# EAGLE library part PINES_PI_PICO (library UNIT_Biblioteca_Modulos)
Pines para Raspberry PI Pico Source: Datasheet <https://uelectronics.com/wp-content/uploads/2021/02/AR1942-Raspberry-PI-Pico-RP2040-ARM-Cortex-M0-Dimensiones-V9.jpg> SKU: AR1942 Propietario: UNIT Electronics Desarrollador: Federico Hidalgo
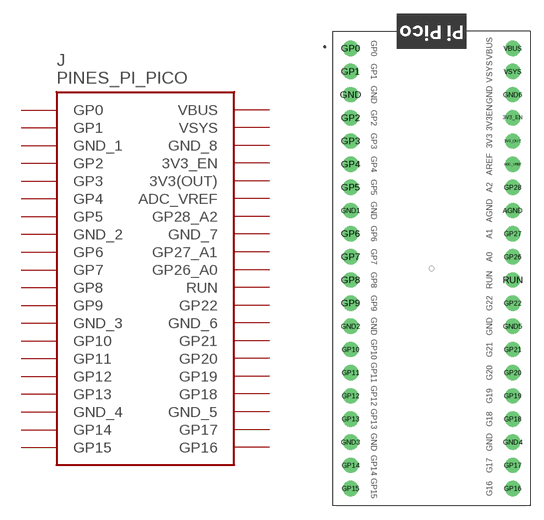
[diagram p10: symbol with the pads of PICO; footprint PICO]

Designator prefix J

## PINES_PI_PICO (DESCRIPTION: Pinn to connect Raspberry Pi Pico; HEIGHT: 21mm; MANUFACTURER_NAME: RASPBERRY-PI; MANUFACTURER_PART_NUMBER: PICO; UNIT_PART_NUMBER: AR1942; UNIT_PRICE-STOCK: https://uelectronics.com/producto/raspberry-pi-pico-rp2040-arm-cortex-m0/; WIDTH: 51mm)  [PICO]
3V3_EN  3V3_EN
3V3_OUT  3V3(OUT)
ADC_VREF  ADC_VREF
AGND  GND_7
GND  GND_1
GND1  GND_2
GND2  GND_3
GND3  GND_4
GND4  GND_5
GND5  GND_6
GND6  GND_8
GP0  GP0
GP1  GP1
GP2  GP2
GP3  GP3
GP4  GP4
GP5  GP5
GP6  GP6
GP7  GP7
GP8  GP8
GP9  GP9
GP10  GP10
GP11  GP11
GP12  GP12
GP13  GP13
GP14  GP14
GP15  GP15
GP16  GP16
GP17  GP17
GP18  GP18
GP19  GP19
GP20  GP20
GP21  GP21
GP22  GP22
GP26  GP26_A0
GP27  GP27_A1
GP28  GP28_A2
RUN  RUN
VBUS  VBUS
VSYS  VSYS

## Footprint PICO (pad centres in mm)
PICO-2
drill 1 pad 1.676: 3V3_EN 17.78,40.64; 3V3_OUT 17.78,38.1; ADC_VREF 17.78,35.56; AGND 17.78,30.48; GND 0,43.18; GND1 0,30.48; GND2 0,17.78; GND3 0,5.08; GND4 17.78,5.08; GND5 17.78,17.78; GND6 17.78,43.18; GP0 0,48.26; GP1 0,45.72; GP2 0,40.64; GP3 0,38.1; GP4 0,35.56; GP5 0,33.02; GP6 0,27.94; GP7 0,25.4; GP8 0,22.86; GP9 0,20.32; GP10 0,15.24; GP11 0,12.7; GP12 0,10.16; GP13 0,7.62; GP14 0,2.54; GP15 0,0; GP16 17.78,0; GP17 17.78,2.54; GP18 17.78,7.62; GP19 17.78,10.16; GP20 17.78,12.7; GP21 17.78,15.24; GP22 17.78,20.32; GP26 17.78,25.4; GP27 17.78,27.94; GP28 17.78,33.02; RUN 17.78,22.86; VBUS 17.78,48.26; VSYS 17.78,45.72